# Altium schematic symbol library conn_header_2mm_st_smd.SchLib: 20 symbols
Pins are listed as number, name and electrical type; pins without a type are passive.

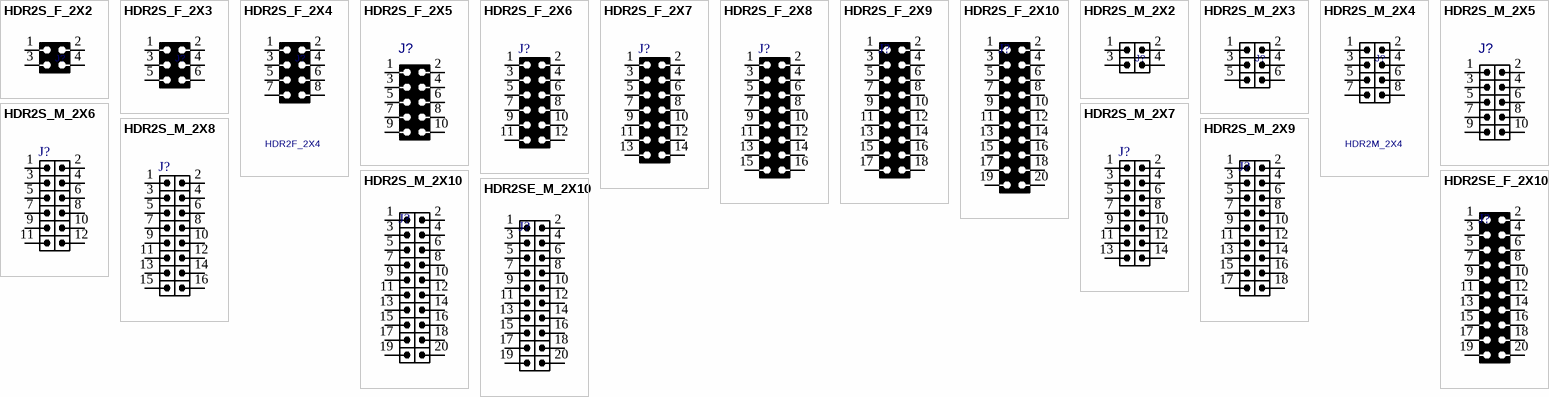
[diagram p0: symbols HDR2S_F_2X2 to HDR2SE_M_2X10]

## HDR2S_F_2X2
designator J?, comment HDR2F_2X2  (value not drawn)
CONN, HEADER, Female, pitch: 2mm, 4POS, SMD; MANF_P#: MANF_PART#; MANF: MANF; VALUE: HDR2F_2X2
footprint HDR2S_F_2X2 (Header 2.0mm pitch)
pins: 1, 2, 3, 4

## HDR2S_F_2X3
designator J?, comment HDR2F_2X3  (value not drawn)
CONN, HEADER, Female, pitch: 2mm, 6POS, SMD; MANF_P#: MANF_PART#; MANF: MANF; VALUE: HDR2F_2X3
footprint HDR2S_F_2X3 (Header 2.0mm pitch)
pins: 1, 2, 3, 4, 5, 6

## HDR2S_F_2X4
designator J?, comment HDR2F_2X4
CONN, HEADER, Female, pitch: 2mm, 8POS, SMD; MANF_P#: MANF_PART#; MANF: MANF; VALUE: HDR2F_2X4
footprint HDR2S_F_2X4 (Header 2.0mm pitch)
pins: 1, 2, 3, 4, 5, 6, 7, 8

## HDR2S_F_2X5
designator J?, comment HDR2F_2X5  (value not drawn)
CONN, HEADER, Female, pitch: 2mm, 10POS, SMD; VALUE: HDR2F_2X5
footprint HDR2S_F_2X5 (Header 2.0mm pitch)
pins: 1, 2, 3, 4, 5, 6, 7, 8, 9, 10

## HDR2S_F_2X6
designator J?, comment HDR2F_2X6  (value not drawn)
CONN, HEADER, Female, pitch: 2mm, SMD; VALUE: HDR2F_2X6
footprint HDR2S_F_2X6 (Footprint not found)
pins: 1, 2, 3, 4, 5, 6, 7, 8, 9, 10, 11, 12

## HDR2S_F_2X7
designator J?, comment HDR2F_2X7  (value not drawn)
CONN, HEADER, Female, pitch: 2mm, SMD; VALUE: HDR2F_2X7
footprint HDR2S_F_2X7 (Header 2.0mm pitch)
pins: 1, 2, 3, 4, 5, 6, 7, 8, 9, 10, 11, 12, 13, 14

## HDR2S_F_2X8
designator J?, comment HDR2F_2X8  (value not drawn)
CONN, HEADER, Female, pitch: 2mm, 16POS, SMD; VALUE: HDR2F_2X8
footprint HDR2S_F_2X8 (Header 2.0mm pitch)
pins: 1, 2, 3, 4, 5, 6, 7, 8, 9, 10, 11, 12, 13, 14, 15, 16

## HDR2S_F_2X9
designator J?, comment HDR2F_2X9  (value not drawn)
CONN, HEADER, Female, pitch: 2mm, SMD; VALUE: HDR2F_2X9
footprint HDR2S_F_2X9 (Header 2.0mm pitch)
pins: 1, 2, 3, 4, 5, 6, 7, 8, 9, 10, 11, 12, 13, 14, 15, 16, 17, 18

## HDR2S_F_2X10
designator J?, comment HDR2F_2X10  (value not drawn)
CONN, HEADER, Female, pitch: 2mm, 20POS, SMD; VALUE: HDR2F_2X10
footprint HDR2S_F_2X10 (Header 2.0mm pitch)
pins: 1, 2, 3, 4, 5, 6, 7, 8, 9, 10, 11, 12, 13, 14, 15, 16, 17, 18, 19, 20

## HDR2S_M_2X2
designator J?, comment HDR2M_2X2  (value not drawn)
CONN, HEADER, Male, pitch: 2mm, 4POS, SMD; MANF_P#: MANF_PART#; MANF: MANF; VALUE: HDR2M_2X2
footprint HDR2S_M_2X2 (Header 2.0mm pitch)
pins: 1, 2, 3, 4

## HDR2S_M_2X3
designator J?, comment HDR2M_2X3  (value not drawn)
CONN, HEADER, Male, pitch: 2mm, 6POS, SMD; MANF_P#: MANF_PART#; MANF: MANF; VALUE: HDR2M_2X3
footprint HDR2S_M_2X3 (Header 2.0mm pitch)
pins: 1, 2, 3, 4, 5, 6

## HDR2S_M_2X4
designator J?, comment HDR2M_2X4
CONN, HEADER, Male, pitch: 2mm, 8POS, SMD; MANF_P#: MANF_PART#; MANF: MANF; VALUE: HDR2M_2X4
footprint HDR2S_M_2X4 (Header 2.0mm pitch)
pins: 1, 2, 3, 4, 5, 6, 7, 8

## HDR2S_M_2X5
designator J?, comment HDR2M_2X5  (value not drawn)
CONN, HEADER, Male, pitch: 2mm, 10POS, SMD; VALUE: HDR2M_2X5
footprint HDR2S_M_2X5 (Header 2.0mm pitch)
pins: 1, 2, 3, 4, 5, 6, 7, 8, 9, 10

## HDR2S_M_2X6
designator J?, comment HDR2M_2X6  (value not drawn)
CONN, HEADER, Male, pitch: 2mm, SMD; VALUE: HDR2M_2X6
footprint HDR2S_M_2X6 (Header 2.0mm pitch)
pins: 1, 2, 3, 4, 5, 6, 7, 8, 9, 10, 11, 12

## HDR2S_M_2X7
designator J?, comment HDR2M_2X7  (value not drawn)
CONN, HEADER, Male, pitch: 2mm, SMD; VALUE: HDR2M_2X7
footprint HDR2S_M_2X7 (Header 2.0mm pitch)
pins: 1, 2, 3, 4, 5, 6, 7, 8, 9, 10, 11, 12, 13, 14

## HDR2S_M_2X8
designator J?, comment HDR2M_2X8  (value not drawn)
CONN, HEADER, Male, pitch: 2mm, 16POS, SMD; VALUE: HDR2M_2X8
footprint HDR2S_M_2X8 (Header 2.0mm pitch)
pins: 1, 2, 3, 4, 5, 6, 7, 8, 9, 10, 11, 12, 13, 14, 15, 16

## HDR2S_M_2X9
designator J?, comment HDR2M_2X9  (value not drawn)
CONN, HEADER, Male, pitch: 2mm, SMD; VALUE: HDR2M_2X9
footprint HDR2S_M_2X9 (Header 2.0mm pitch)
pins: 1, 2, 3, 4, 5, 6, 7, 8, 9, 10, 11, 12, 13, 14, 15, 16, 17, 18

## HDR2S_M_2X10
designator J?, comment HDR2M_2X10  (value not drawn)
CONN, HEADER, Male, pitch: 2mm, 20POS, SMD; VALUE: HDR2M_2X10
footprint HDR2S_M_2X10 (Header 2.0mm pitch)
pins: 1, 2, 3, 4, 5, 6, 7, 8, 9, 10, 11, 12, 13, 14, 15, 16, 17, 18, 19, 20

## HDR2SE_F_2X10
designator J?, comment HDR2F_2X10  (value not drawn)
CONN, HEADER, Female, pitch: 2mm, 20POS, SMD edge of board; VALUE: HDR2F_2X10
footprint HDR2SE_F_2X10
pins: 1, 2, 3, 4, 5, 6, 7, 8, 9, 10, 11, 12, 13, 14, 15, 16, 17, 18, 19, 20

## HDR2SE_M_2X10
designator J?, comment HDR2M_2X10  (value not drawn)
CONN, HEADER, Male, pitch: 2mm, 20POS, SMD edge of board; VALUE: HDR2M_2X10
footprint HDR2SE_M_2X10
pins: 1, 2, 3, 4, 5, 6, 7, 8, 9, 10, 11, 12, 13, 14, 15, 16, 17, 18, 19, 20